# EAGLE library part BASICX35 (library BasicX_Chips)
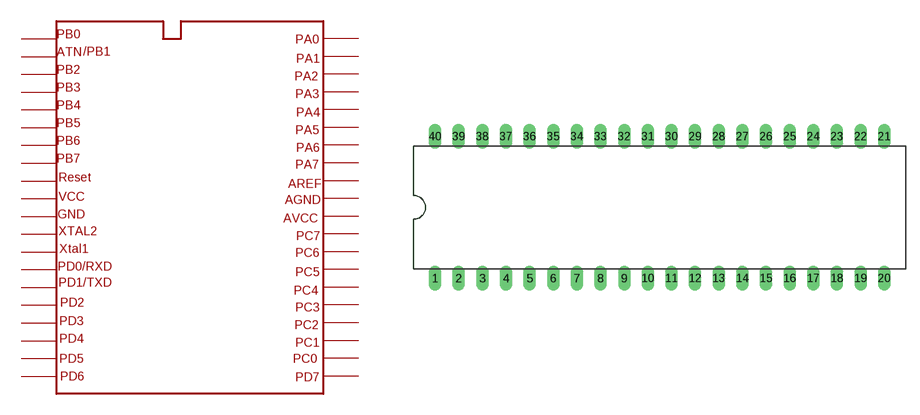
[diagram p1: symbol with the pads of DIP-40; footprint DIP-40]

Designator prefix -

## BASICX35  [DIP-40]
1  P$1
2  P$2
3  P$3
4  P$4
5  P$5
6  P$6
7  P$7
8  P$8
9  P$9
10  P$10
11  P$11
12  P$12
13  P$13
14  P$14
15  P$15
16  P$16
17  P$17
18  P$18
19  P$19
20  P$20
21  P$21
22  P$22
23  P$23
24  P$24
25  P$25
26  P$26
27  P$27
28  P$28
29  P$29
30  P$30
31  P$31
32  P$32
33  P$33
34  P$34
35  P$35
36  P$36
37  P$37
38  P$38
39  P$39
40  P$40

## Footprint DIP-40 (pad centres in mm)
drill 0.813 long: 1 -24.13,-6.35; 2 -21.59,-6.35; 3 -19.05,-6.35; 4 -16.51,-6.35; 5 -13.97,-6.35; 6 -11.43,-6.35; 7 -8.89,-6.35; 8 -6.35,-6.35; 9 -3.81,-6.35; 10 -1.27,-6.35; 11 1.27,-6.35; 12 3.81,-6.35; 13 6.35,-6.35; 14 8.89,-6.35; 15 11.43,-6.35; 16 13.97,-6.35; 17 16.51,-6.35; 18 19.05,-6.35; 19 21.59,-6.35; 20 24.13,-6.35; 21 24.13,8.89; 22 21.59,8.89; 23 19.05,8.89; 24 16.51,8.89; 25 13.97,8.89; 26 11.43,8.89; 27 8.89,8.89; 28 6.35,8.89; 29 3.81,8.89; 30 1.27,8.89; 31 -1.27,8.89; 32 -3.81,8.89; 33 -6.35,8.89; 34 -8.89,8.89; 35 -11.43,8.89; 36 -13.97,8.89; 37 -16.51,8.89; 38 -19.05,8.89; 39 -21.59,8.89; 40 -24.13,8.89